# Altium footprint library TT 3D Model (SMALL).PcbLib: 16 footprints
Each footprint in its own frame and in the unit in brackets; x right, y up, seen from the top. Pads: shape width x height; smd on the part's side, far side on the other; paste and mask are expansions set on the pad; w line width, h text height; cw(c..) or ccw(c..) is an arc to the next point about the centre after c.
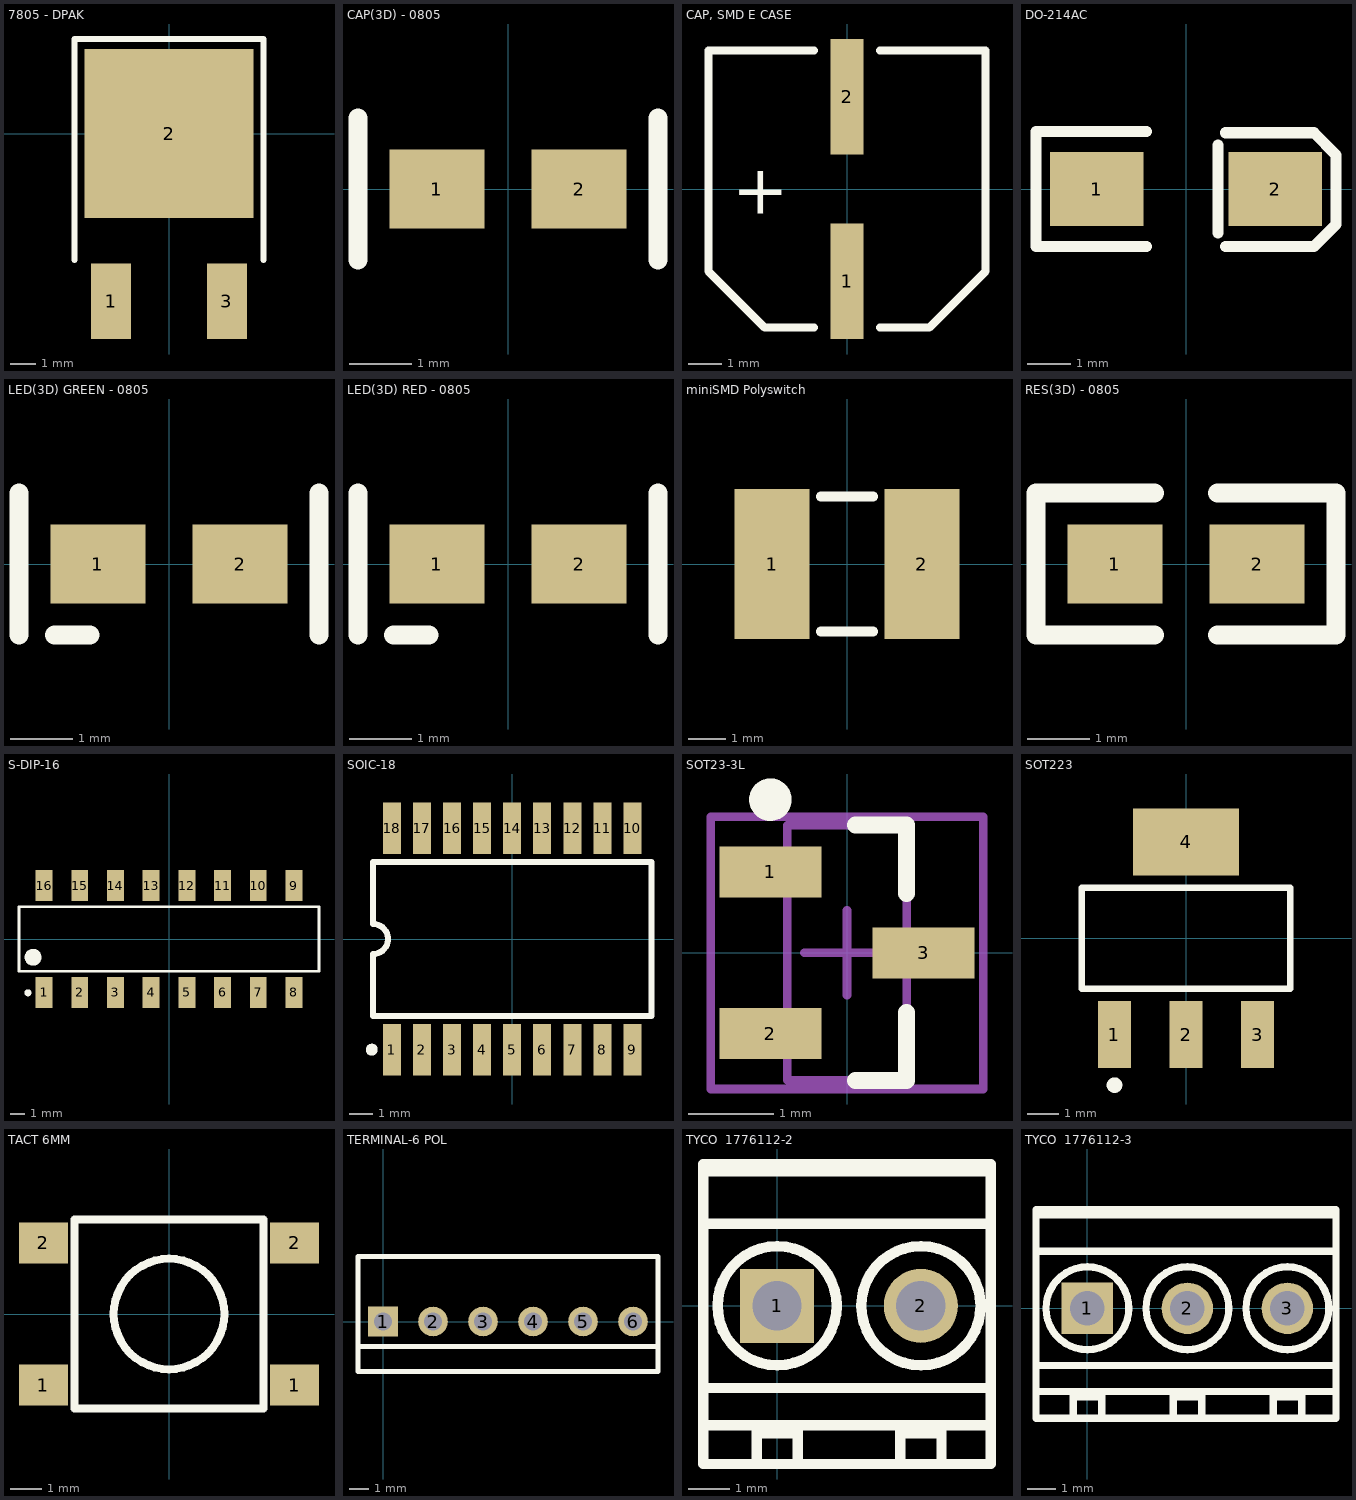
[diagram p0: the footprints below, top view; thin cyan lines are the x and y axes]

## 7805 - DPAK [mm]
pads (3):
  rect 1.6x3 smd: 1(-2.3,-6.65) 3(2.3,-6.65)
  rect 6.7x6.7 smd: 2(0,0)
Top Overlay:
  lines w0.254: -3.75,-5 -3.75,3.75 3.75,3.75 3.75,-5
3D body: height 2.4, standoff 0, extent -3,-4.5 3,2.5
3D body: height 2, standoff 0, extent -2.75,-7.75 -1.875,-4.5
3D body: height 2, standoff 0, extent 1.875,-7.75 2.75,-4.5

## CAP(3D) - 0805 [mil]
pads (2):
  rect 60x50 smd: 1(-45,0) 2(45,0)
Top Overlay:
  lines w12: -95,-45 -95,45 ; 95,-45 95,45
3D body: height 21.65, standoff 0, extent 24.61,-24.61 39.37,24.61
3D body: height 21.65, standoff 0, extent -39.37,-24.61 -24.61,24.61
3D body: height 19.68, standoff 0, extent -31.99,-24.61 31.99,24.61

## CAP, SMD E CASE [mm]
pads (2):
  rect 1x3.5 smd: 1(0,-2.8) 2(0,2.8)
Top Overlay:
  lines w0.254: -1,-4.2 -2.5,-4.2 -4.2,-2.5 -4.2,0 -4.2,4.2 -1,4.2 ; 1,-4.2 2.5,-4.2 4.2,-2.5 4.2,0 4.2,4.2 1,4.2
  text "+" at -3.475,-0.75 h1.5
3D body: height 6.2, standoff 0, extent -4,-4 3.968,3.984
3D body: height 1, standoff 0, extent -4.2,-4.2 4.2,4.2
3D body: height 6.35, standoff 0, extent -3,1.5 3,2

## DO-214AC [mil]
pads (2):
  rect 85x67 smd: 1(-81,0) 2(81,0)
Top Overlay:
  lines w10: -36,-52 -136,-52 -136,52 -36,52 ; 29,-40 29,40 ; 36,-52 116,-52 136,-32 ; 36,51 116,51 136,31 136,-31
3D body: height 59.06, standoff 0, extent -59.06,-39.37 59.06,39.37
3D body: height 61.02, standoff 0, extent 39.37,-39.37 49.21,39.37
3D body: height 11.81, standoff 0, extent 55.12,-23.62 78.74,23.62
3D body: height 11.81, standoff 0, extent -78.74,-23.62 -55.12,23.62

## LED(3D) GREEN - 0805 [mil]
pads (2):
  rect 60x50 smd: 1(-45,0) 2(45,0)
Top Overlay:
  lines w12: -95,-45 -95,45 ; -72.5,-45 -50,-45 ; 95,-45 95,45
3D body: height 19.68, standoff 0, extent -31.99,-24.61 31.99,24.61
3D body: height 21.65, standoff 0, extent -39.37,-24.61 -24.61,24.61
3D body: height 21.65, standoff 0, extent 24.61,-24.61 39.37,24.61

## LED(3D) RED - 0805 [mil]
pads (2):
  rect 60x50 smd: 1(-45,0) 2(45,0)
Top Overlay:
  lines w12: -95,-45 -95,45 ; -72.5,-45 -50,-45 ; 95,-45 95,45
3D body: height 19.68, standoff 0, extent -31.99,-24.61 31.99,24.61
3D body: height 21.65, standoff 0, extent -39.37,-24.61 -24.61,24.61
3D body: height 21.65, standoff 0, extent 24.61,-24.61 39.37,24.61

## miniSMD Polyswitch [mm]
pads (2):
  rect 2x4 smd: 1(-2,0) 2(2,0)
Top Overlay:
  lines w0.254: -0.7,-1.8 0.7,-1.8 ; -0.7,1.8 0.7,1.8
3D body: height 0.62, standoff 0, extent -2.4,-1.7 -2,1.7
3D body: height 0.62, standoff 0, extent -2,-1.7 0,1.7
3D body: height 0.62, standoff 0, extent 0,-1.7 2,1.7
3D body: height 0.62, standoff 0, extent 2,-1.7 2.4,1.7

## RES(3D) - 0805 [mil]
pads (2):
  rect 60x50 smd: 1(-45,0) 2(45,0)
Top Overlay:
  lines w12: -20,-45 -95,-45 -95,45 -20,45 ; 20,-45 95,-45 95,45 20,45
3D body: height 21.65, standoff 0, extent 24.61,-24.61 39.37,24.61
3D body: height 21.65, standoff 0, extent -39.37,-24.61 -24.61,24.61
3D body: height 19.68, standoff 0, extent -31.99,-24.61 31.99,24.61

## S-DIP-16 [mm]
pads (16):
  rect 1.2x2.2 smd: 1(-8.89,-3.8) 2(-6.35,-3.8) 3(-3.81,-3.8) 4(-1.27,-3.8) 5(1.27,-3.8) 6(3.81,-3.8) 7(6.35,-3.8) 8(8.89,-3.8) 9(8.89,3.8) 10(6.35,3.8) 11(3.81,3.8) 12(1.27,3.8) 13(-1.27,3.8) 14(-3.81,3.8) 15(-6.35,3.8) 16(-8.89,3.8)
Top Overlay:
  circle w0.6: c-9.675,-1.3 r0.3
  circle w0.25: c-10.04,-3.827 r0.125
  lines w0.2: -10.675,-2.3 -10.675,2.3 10.675,2.3 10.675,-2.3 -10.675,-2.3
3D body: height 4.4, standoff 0, extent -10.75,-4 10.75,4
3D body: height 5, standoff 0, extent -9.5,-1.75 -8.25,0
3D body: height 5, standoff 0, extent -6.96,-1.75 -5.71,0
3D body: height 5, standoff 0, extent -4.42,-1.75 -3.17,0
3D body: height 5, standoff 0, extent -1.88,-1.75 -0.63,0
3D body: height 5, standoff 0, extent 0.66,-1.75 1.91,0
3D body: height 5, standoff 0, extent 3.2,-1.75 4.45,0
3D body: height 5, standoff 0, extent 5.74,-1.75 6.99,0
3D body: height 5, standoff 0, extent 8.28,-1.75 9.53,0
3D body: height 4.41, standoff 0, extent -9.5,0 -8.25,1.5
3D body: height 4.41, standoff 0, extent -6.96,0 -5.71,1.5
3D body: height 4.41, standoff 0, extent -4.42,0 -3.17,1.5
3D body: height 4.41, standoff 0, extent -1.88,0 -0.63,1.5
3D body: height 4.41, standoff 0, extent 0.66,0 1.91,1.5
3D body: height 4.41, standoff 0, extent 3.2,0 4.45,1.5
3D body: height 4.41, standoff 0, extent 5.74,0 6.99,1.5
3D body: height 4.41, standoff 0, extent 8.28,0 9.53,1.5

## SOIC-18 [mil]
pads (18):
  rect 30x85 smd: 1(-200,-184.05) 2(-150,-184.05) 3(-100,-184.05) 4(-50,-184.05) 5(0,-184.05) 6(50,-184.05) 7(100,-184.05) 8(150,-184.05) 9(200,-184.05) 10(200,184.06) 11(150,184.06) 12(100,184.06) 13(50,184.06) 14(0,184.06) 15(-50,184.06) 16(-100,184.06) 17(-150,184.06) 18(-200,184.06)
Top Overlay:
  circle w10: c-233.46,-184.06 r4.92
  lines w10: -231.3,-127.95 -231.3,-25 ccw(c-231.3,0) -231.3,25 -231.3,127.95 231.3,127.95 231.3,-127.95 -231.3,-127.95
3D body: height 98.43, standoff 0, extent -236.22,-147.64 236.22,147.64
3D body: height 100.39, standoff 98.43, extent -196.85,-108.27 -157.64,-68.98

## SOT23-3L [mm]
pads (3):
  rect 1.2x0.6 smd: 1(-0.9,0.95) 2(-0.9,-0.95) 3(0.9,0)
Top Overlay:
  circle w0.25: c-0.9,1.8 r0.125
  lines w0.2: 0.1,-1.5 0.7,-1.5 0.7,-0.7 ; 0.1,1.5 0.7,1.5 0.7,0.7
Mechanical 13:
  lines w0.1: -0.7,-1.5 -0.7,1.5 0.7,1.5 0.7,-1.5 -0.7,-1.5
Mechanical 15:
  lines w0.1: -0.5,0 0.5,0 ; 0,-0.5 0,0.5 ; -1.6,-1.6 -1.6,1.6 1.6,1.6 1.6,-1.6 -1.6,-1.6
3D body: height 1.1, standoff 0, extent -0.7,-1.5 0.7,1.5

## SOT223 [mm]
pads (4):
  rect 1.05x2.15 smd: 1(-2.3,-3.1) 2(0,-3.1) 3(2.3,-3.1)
  rect 3.4x2.15 smd: 4(0,3.1)
Top Overlay:
  circle w0.25: c-2.3,-4.725 r0.125
  lines w0.2: -3.35,-1.625 -3.35,1.625 3.35,1.625 3.35,-1.625 -3.35,-1.625
3D body: height 1.1, standoff 0, extent -3.35,-1.625 3.35,1.625

## TACT 6MM [mm]
pads (4):
  rect 1.55x1.3 smd: 1(-3.975,-2.25) 1(3.975,-2.25) 2(-3.975,2.25) 2(3.975,2.25)
Top Overlay:
  circle w0.254: c0,0 r1.75
  lines w0.254: -3,0 -3,-3 ; -3,-3 3,-3 3,3 -3,3 -3,-3
3D body: height 5, standoff 0, extent -1.75,-1.755 1.736,1.738
3D body: height 4, standoff 3, extent 1.5,1.505 2.495,2.501
3D body: height 4, standoff 3, extent 1.505,-2.496 2.5,-1.5
3D body: height 4, standoff 3, extent -2.496,-2.5 -1.501,-1.504
3D body: height 4, standoff 3, extent -2.5,1.5 -1.505,2.496
3D body: height 3.6, standoff 3.5, extent -3,-3 3,3
3D body: height 3.5, standoff 0, extent -3,-3 3,3

## TERMINAL-6 POL [mm]
pads (6):
  rect 1.5x1.5 hole 0.9: 1(0,0)
  round 1.5 hole 0.9: 2(2.54,0) 3(5.08,0) 4(7.62,0) 5(10.16,0) 6(12.7,0)
Top Overlay:
  lines w0.254: 13.97,1.016 13.97,3.302 -1.27,3.302 -1.27,1.27 ; 13.97,1.27 13.97,-1.27 ; -1.27,1.27 -1.27,-1.27 13.97,-1.27 ; -1.27,1.27 -1.27,-2.54 13.97,-2.54 13.97,-1.27
3D body: height 9.99, standoff -3.6, extent -1.252,-3.192 13.988,3.285

## TYCO  1776112-2 [mm]
pads (2):
  rect 1.8x1.8 hole 1.2: 1(0,0)
  round 1.8 hole 1.2: 2(3.5,0)
Top Overlay:
  circle w0.254: c3.502,0 r1.45
  circle w0.254: c0.002,0 r1.45
  lines w0.254: -1.798,-2.91 5.202,-2.91 ; -1.798,-2 5.202,-2 ; -1.798,2 5.202,2 ; -1.798,3.274 5.202,3.274 ; -0.498,-3.85 -0.498,-2.915 0.502,-2.915 0.502,-3.85 ; -0.498,-3.1 0.502,-3.1 ; 3.002,-3.85 3.002,-2.915 4.002,-2.915 4.002,-3.85 ; 3.002,-3.1 4.002,-3.1 ; -1.798,-3.85 -1.798,3.45 5.202,3.45 5.202,-3.85 -1.798,-3.85
3D body: height 8.55, standoff -3.45, extent -1.771,-3.876 5.229,3.424

## TYCO  1776112-3 [mm]
pads (3):
  rect 1.8x1.8 hole 1.2: 1(0,0)
  round 1.8 hole 1.2: 2(3.5,0) 3(7,0)
Top Overlay:
  circle w0.254: c0.002,0 r1.45
  circle w0.254: c3.502,0 r1.45
  circle w0.254: c7.002,0 r1.45
  lines w0.254: -1.798,-2.91 5.202,-2.91 8.702,-2.91 8.702,-3 ; -1.798,-2 5.202,-2 8.702,-2 ; -1.798,2 5.202,2 8.702,2 ; -1.798,3.274 5.202,3.274 8.702,3.274 8.702,3.45 ; -0.498,-3.85 -0.498,-2.915 0.502,-2.915 0.502,-3.85 ; -0.498,-3.1 0.502,-3.1 ; 3.002,-3.85 3.002,-2.915 4.002,-2.915 4.002,-3.85 ; 3.002,-3.1 4.002,-3.1 ; 5,-3.85 8.702,-3.85 8.702,3.45 ; 5.202,-3.85 -1.798,-3.85 -1.798,3.45 5.202,3.45 8.702,3.45 ; 6.502,-3.85 6.502,-2.915 7.502,-2.915 7.502,-3.85 ; 6.502,-3.1 7.502,-3.1
3D body: height 8.55, standoff -3.45, extent -1.8,-3.8 8.7,3.5